# EAGLE library part BD6222HFP-TR (library systas0)
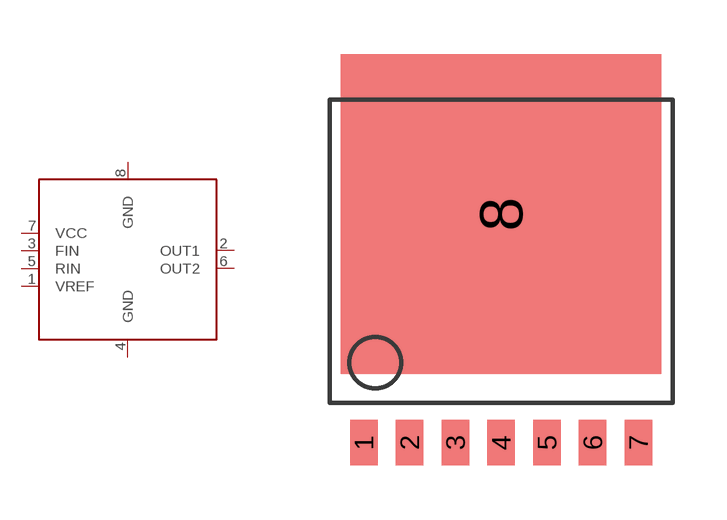
[diagram p5: symbol with the pads of BR6222HFP-TR; footprint BR6222HFP-TR]

Designator prefix -

## BD6222HFP-TR  [BR6222HFP-TR]
1  VREF
2  OUT1
3  FIN
4  GND
5  RIN
6  OUT2
7  VCC
8  GND

## Footprint BR6222HFP-TR (pad centres in mm)
smd 0.762 x 1.27: 1 -3.81,-5.08; 2 -2.54,-5.08; 3 -1.27,-5.08; 4 0,-5.08; 5 1.27,-5.08; 6 2.54,-5.08; 7 3.81,-5.08
smd 8.89 x 8.89: 8 0,1.27